# EAGLE library part LUMILED_PARALLEL (library lumiled_led)
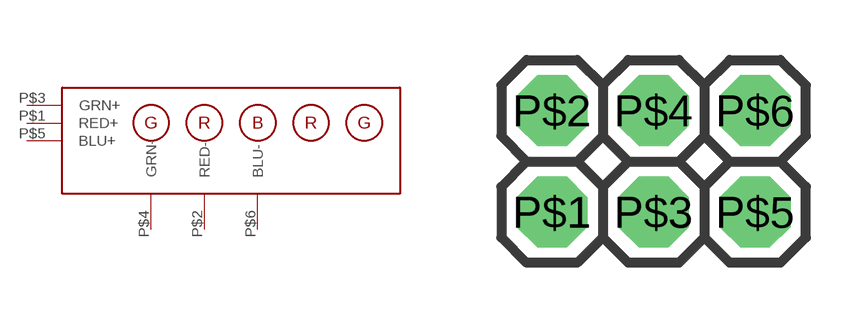
[diagram p0: symbol with the pads of LED_PAR; footprint LED_PAR]

Designator prefix -

## LUMILED_PARALLEL  [LED_PAR]
P$1  RED+
P$2  RED-
P$3  GRN+
P$4  GRN-
P$5  BLU+
P$6  BLU-

## Footprint LED_PAR (pad centres in mm)
PIN HEADER
drill 0.6 pad 1.778 octagon: P$1 -5.08,-1.27; P$2 -5.08,1.27; P$3 -2.54,-1.27; P$4 -2.54,1.27; P$5 0,-1.27; P$6 0,1.27